# EAGLE library part XC3S50ATQ144 (library xilinx_spartan3_virtex4_and_5)
Xilinx FPGA
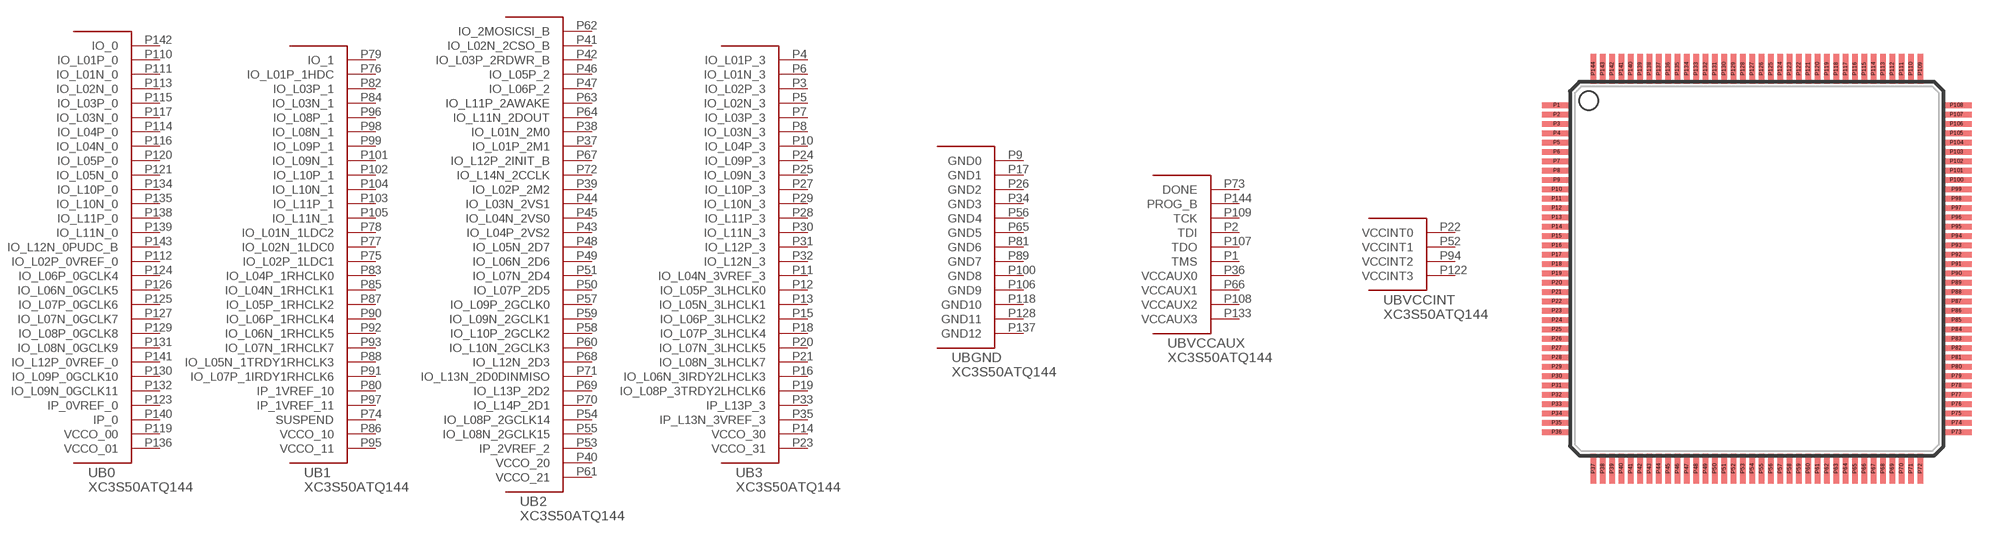
[diagram p29: symbol with the pads of TQ144; footprint TQ144]

Designator prefix U; gates B0=XC3S50ATQ144_0 B1=XC3S50ATQ144_1 B2=XC3S50ATQ144_2 B3=XC3S50ATQ144_3 BGND=XC3S50ATQ144_GND BVCCAUX=XC3S50ATQ144_VCCAUX BVCCINT=XC3S50ATQ144_VCCINT

## XC3S50ATQ144  [TQ144]
P1  BVCCAUX:TMS
P2  BVCCAUX:TDI
P3  B3:IO_L02P_3
P4  B3:IO_L01P_3
P5  B3:IO_L02N_3
P6  B3:IO_L01N_3
P7  B3:IO_L03P_3
P8  B3:IO_L03N_3
P9  BGND:GND0  pas
P10  B3:IO_L04P_3
P11  B3:IO_L04N_3VREF_3
P12  B3:IO_L05P_3LHCLK0
P13  B3:IO_L05N_3LHCLK1
P14  B3:VCCO_30  pas
P15  B3:IO_L06P_3LHCLK2
P16  B3:IO_L06N_3IRDY2LHCLK3
P17  BGND:GND1  pas
P18  B3:IO_L07P_3LHCLK4
P19  B3:IO_L08P_3TRDY2LHCLK6
P20  B3:IO_L07N_3LHCLK5
P21  B3:IO_L08N_3LHCLK7
P22  BVCCINT:VCCINT0  pas
P23  B3:VCCO_31  pas
P24  B3:IO_L09P_3
P25  B3:IO_L09N_3
P26  BGND:GND2  pas
P27  B3:IO_L10P_3
P28  B3:IO_L11P_3
P29  B3:IO_L10N_3
P30  B3:IO_L11N_3
P31  B3:IO_L12P_3
P32  B3:IO_L12N_3
P33  B3:IP_L13P_3
P34  BGND:GND3  pas
P35  B3:IP_L13N_3VREF_3
P36  BVCCAUX:VCCAUX0  pas
P37  B2:IO_L01P_2M1
P38  B2:IO_L01N_2M0
P39  B2:IO_L02P_2M2
P40  B2:VCCO_20  pas
P41  B2:IO_L02N_2CSO_B
P42  B2:IO_L03P_2RDWR_B
P43  B2:IO_L04P_2VS2
P44  B2:IO_L03N_2VS1
P45  B2:IO_L04N_2VS0
P46  B2:IO_L05P_2
P47  B2:IO_L06P_2
P48  B2:IO_L05N_2D7
P49  B2:IO_L06N_2D6
P50  B2:IO_L07P_2D5
P51  B2:IO_L07N_2D4
P52  BVCCINT:VCCINT1  pas
P53  B2:IP_2VREF_2
P54  B2:IO_L08P_2GCLK14
P55  B2:IO_L08N_2GCLK15
P56  BGND:GND4  pas
P57  B2:IO_L09P_2GCLK0
P58  B2:IO_L10P_2GCLK2
P59  B2:IO_L09N_2GCLK1
P60  B2:IO_L10N_2GCLK3
P61  B2:VCCO_21  pas
P62  B2:IO_2MOSICSI_B
P63  B2:IO_L11P_2AWAKE
P64  B2:IO_L11N_2DOUT
P65  BGND:GND5  pas
P66  BVCCAUX:VCCAUX1  pas
P67  B2:IO_L12P_2INIT_B
P68  B2:IO_L12N_2D3
P69  B2:IO_L13P_2D2
P70  B2:IO_L14P_2D1
P71  B2:IO_L13N_2D0DINMISO
P72  B2:IO_L14N_2CCLK
P73  BVCCAUX:DONE
P74  B1:SUSPEND
P75  B1:IO_L02P_1LDC1
P76  B1:IO_L01P_1HDC
P77  B1:IO_L02N_1LDC0
P78  B1:IO_L01N_1LDC2
P79  B1:IO_1
P80  B1:IP_1VREF_10
P81  BGND:GND6  pas
P82  B1:IO_L03P_1
P83  B1:IO_L04P_1RHCLK0
P84  B1:IO_L03N_1
P85  B1:IO_L04N_1RHCLK1
P86  B1:VCCO_10  pas
P87  B1:IO_L05P_1RHCLK2
P88  B1:IO_L05N_1TRDY1RHCLK3
P89  BGND:GND7  pas
P90  B1:IO_L06P_1RHCLK4
P91  B1:IO_L07P_1IRDY1RHCLK6
P92  B1:IO_L06N_1RHCLK5
P93  B1:IO_L07N_1RHCLK7
P94  BVCCINT:VCCINT2  pas
P95  B1:VCCO_11  pas
P96  B1:IO_L08P_1
P97  B1:IP_1VREF_11
P98  B1:IO_L08N_1
P99  B1:IO_L09P_1
P100  BGND:GND8  pas
P101  B1:IO_L09N_1
P102  B1:IO_L10P_1
P103  B1:IO_L11P_1
P104  B1:IO_L10N_1
P105  B1:IO_L11N_1
P106  BGND:GND9  pas
P107  BVCCAUX:TDO
P108  BVCCAUX:VCCAUX2  pas
P109  BVCCAUX:TCK
P110  B0:IO_L01P_0
P111  B0:IO_L01N_0
P112  B0:IO_L02P_0VREF_0
P113  B0:IO_L02N_0
P114  B0:IO_L04P_0
P115  B0:IO_L03P_0
P116  B0:IO_L04N_0
P117  B0:IO_L03N_0
P118  BGND:GND10  pas
P119  B0:VCCO_00  pas
P120  B0:IO_L05P_0
P121  B0:IO_L05N_0
P122  BVCCINT:VCCINT3  pas
P123  B0:IP_0VREF_0
P124  B0:IO_L06P_0GCLK4
P125  B0:IO_L07P_0GCLK6
P126  B0:IO_L06N_0GCLK5
P127  B0:IO_L07N_0GCLK7
P128  BGND:GND11  pas
P129  B0:IO_L08P_0GCLK8
P130  B0:IO_L09P_0GCLK10
P131  B0:IO_L08N_0GCLK9
P132  B0:IO_L09N_0GCLK11
P133  BVCCAUX:VCCAUX3  pas
P134  B0:IO_L10P_0
P135  B0:IO_L10N_0
P136  B0:VCCO_01  pas
P137  BGND:GND12  pas
P138  B0:IO_L11P_0
P139  B0:IO_L11N_0
P140  B0:IP_0
P141  B0:IO_L12P_0VREF_0
P142  B0:IO_0
P143  B0:IO_L12N_0PUDC_B
P144  BVCCAUX:PROG_B

## Footprint TQ144 (pad centres in mm)
smd 1.6 x 0.3: P1 -10.7,8.75; P2 -10.7,8.25; P3 -10.7,7.75; P4 -10.7,7.25; P5 -10.7,6.75; P6 -10.7,6.25; P7 -10.7,5.75; P8 -10.7,5.25; P9 -10.7,4.75; P10 -10.7,4.25; P11 -10.7,3.75; P12 -10.7,3.25; P13 -10.7,2.75; P14 -10.7,2.25; P15 -10.7,1.75; P16 -10.7,1.25; P17 -10.7,0.75; P18 -10.7,0.25; P19 -10.7,-0.25; P20 -10.7,-0.75; P21 -10.7,-1.25; P22 -10.7,-1.75; P23 -10.7,-2.25; P24 -10.7,-2.75; P25 -10.7,-3.25; P26 -10.7,-3.75; P27 -10.7,-4.25; P28 -10.7,-4.75; P29 -10.7,-5.25; P30 -10.7,-5.75; P31 -10.7,-6.25; P32 -10.7,-6.75; P33 -10.7,-7.25; P34 -10.7,-7.75; P35 -10.7,-8.25; P36 -10.7,-8.75; P73 10.7,-8.75; P74 10.7,-8.25; P75 10.7,-7.75; P76 10.7,-7.25; P77 10.7,-6.75; P78 10.7,-6.25; P79 10.7,-5.75; P80 10.7,-5.25; P81 10.7,-4.75; P82 10.7,-4.25; P83 10.7,-3.75; P84 10.7,-3.25; P85 10.7,-2.75; P86 10.7,-2.25; P87 10.7,-1.75; P88 10.7,-1.25; P89 10.7,-0.75; P90 10.7,-0.25; P91 10.7,0.25; P92 10.7,0.75; P93 10.7,1.25; P94 10.7,1.75; P95 10.7,2.25; P96 10.7,2.75; P97 10.7,3.25; P98 10.7,3.75; P99 10.7,4.25; P100 10.7,4.75; P101 10.7,5.25; P102 10.7,5.75; P103 10.7,6.25; P104 10.7,6.75; P105 10.7,7.25; P106 10.7,7.75; P107 10.7,8.25; P108 10.7,8.75
smd 0.3 x 1.6: P37 -8.75,-10.7; P38 -8.25,-10.7; P39 -7.75,-10.7; P40 -7.25,-10.7; P41 -6.75,-10.7; P42 -6.25,-10.7; P43 -5.75,-10.7; P44 -5.25,-10.7; P45 -4.75,-10.7; P46 -4.25,-10.7; P47 -3.75,-10.7; P48 -3.25,-10.7; P49 -2.75,-10.7; P50 -2.25,-10.7; P51 -1.75,-10.7; P52 -1.25,-10.7; P53 -0.75,-10.7; P54 -0.25,-10.7; P55 0.25,-10.7; P56 0.75,-10.7; P57 1.25,-10.7; P58 1.75,-10.7; P59 2.25,-10.7; P60 2.75,-10.7; P61 3.25,-10.7; P62 3.75,-10.7; P63 4.25,-10.7; P64 4.75,-10.7; P65 5.25,-10.7; P66 5.75,-10.7; P67 6.25,-10.7; P68 6.75,-10.7; P69 7.25,-10.7; P70 7.75,-10.7; P71 8.25,-10.7; P72 8.75,-10.7; P109 8.75,10.7; P110 8.25,10.7; P111 7.75,10.7; P112 7.25,10.7; P113 6.75,10.7; P114 6.25,10.7; P115 5.75,10.7; P116 5.25,10.7; P117 4.75,10.7; P118 4.25,10.7; P119 3.75,10.7; P120 3.25,10.7; P121 2.75,10.7; P122 2.25,10.7; P123 1.75,10.7; P124 1.25,10.7; P125 0.75,10.7; P126 0.25,10.7; P127 -0.25,10.7; P128 -0.75,10.7; P129 -1.25,10.7; P130 -1.75,10.7; P131 -2.25,10.7; P132 -2.75,10.7; P133 -3.25,10.7; P134 -3.75,10.7; P135 -4.25,10.7; P136 -4.75,10.7; P137 -5.25,10.7; P138 -5.75,10.7; P139 -6.25,10.7; P140 -6.75,10.7; P141 -7.25,10.7; P142 -7.75,10.7; P143 -8.25,10.7; P144 -8.75,10.7